# EAGLE library part 61802529321 (library USB_c_conn)
WR-DSUB Female PCB Connector with Hex Screw 25 Pins=>Code : Con_I-O_DSUB_PCB_Female_w-screw_61802529321 <https://katalog.we-online.com/media/images/v2/o33090v209%20Family_WR-DSUB_6180xx29321.jpg> Details see: https://katalog.we-online.com/en/em/DSUB_FEMALE_PCB_CONNECTOR_W_HEX_SCREW_6180XX29321 Updated by Ella Wu 2019-03-20 2019 (C) Würth Elektronik
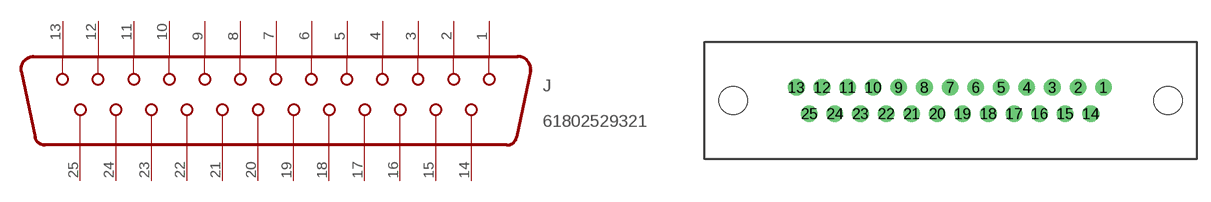
[diagram p14: symbol with the pads of 61802529321; footprint 61802529321]

Designator prefix J

## 61802529321 (WE-NUMBER: 61802529321)  [61802529321]
1  1
2  2
3  3
4  4
5  5
6  6
7  7
8  8
9  9
10  10
11  11
12  12
13  13
14  14
15  15
16  16
17  17
18  18
19  19
20  20
21  21
22  22
23  23
24  24
25  25

## Footprint 61802529321 (pad centres in mm)
WR-DSUB Female PCB Connector with Hex Screw, 25 Pins
drill 1.2: 1 16.55,1.42; 2 13.78,1.42; 3 11.01,1.42; 4 8.24,1.42; 5 5.47,1.42; 6 2.7,1.42; 7 -0.07,1.42; 8 -2.84,1.42; 9 -5.61,1.42; 10 -8.38,1.42; 11 -11.15,1.42; 12 -13.92,1.42; 13 -16.69,1.42; 14 15.165,-1.42; 15 12.395,-1.42; 16 9.625,-1.42; 17 6.855,-1.42; 18 4.085,-1.42; 19 1.315,-1.42; 20 -1.455,-1.42; 21 -4.225,-1.42; 22 -6.995,-1.42; 23 -9.765,-1.42; 24 -12.535,-1.42; 25 -15.305,-1.42
hole 3.05 at -23.52,0
hole 3.05 at 23.52,0